# EAGLE library part MAX1693/4 (library m-pad)
Maxim's MAX1693/(MAX1693H)/MAX1694 USB Current-Limited Switches with Fault Blanking Description: The MAX1693/(MAX1693H)/MAX1694 are current-limited, 60mOm switches with built-in fault blanking. Their accurate preset current limit of 0.7A to 1.0A makes them ideally suited for USB applications. Their low quiescent supply current (14µA) and shutdown current (1µA) conserve battery power in portable applications. The MAX1693/(MAX1693H)/MAX1694 operate with inputs from 2.7V to 5.5V, making them ideal for both 3V and 5V systems. A fault signal notifies the microprocessor that the internal current limit has been reached. A 10ms fault-blanking feature allows momentary faults (such as those caused when hot-swapping into a capacitive load) to be ignored, thus preventing false alarms to the host system. This fault blanking also prevents a fault signal from being issued when the device is powering up. In the MAX1693/(MAX1693H), an output overcurrent condition causes the switch to current limit at 0.7A to 1.0A and FAULT to go low after the 10ms blanking period. When the overcurrent condition is removed, FAULT returns to its high-impedance state. In the MAX1694, any overcurrent longer than 10ms will latch the switch open and set FAULT low. The latch is cleared by cycling the ON input or by powering up the device again. This feature saves power by preventing the device from thermally cycling on and off in case of a persistent short-circuit condition. The MAX1693/(MAX1693H)/MAX1694 have several safety features to ensure that the USB port is protected. Built-in thermal-overload protection limits power dissipation and junction temperatures. All devices have accurate internal current-limiting circuitry to protect the input supply against overload. They are available in space-saving 10-pin µMAX packages. Features: Accurate Current Limit (0.7A min, 1.0A max) Guaranteed 0.75A Short-Circuit Protection 10ms Internal Fault-Blanking Timeout No Fault Signal During Power-Up Latched FAULT Output Turns Off Power Switch (MAX1694) Thermal Shutdown Protection 2.7V to 5.5V Supply Range 14µA Supply Current Small 10-Pin µMAX Package UL Recognized?#E211935 Applications: USB Ports and Hubs Notebook Computers Portable Equipment Docking Stations Hot Plug-In Power Supplies Battery-Charger Circuits Please send any comments to: messi@users.sourceforge.net
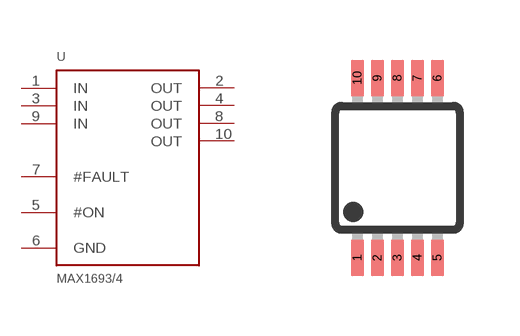
[diagram p82: symbol with the pads of UMAX10; footprint UMAX10]

Designator prefix U

## MAX1693/4  [UMAX10]
1  IN  in
2  OUT  in
3  IN  in
4  OUT  in
5  #ON  in
6  GND  in
7  #FAULT  in
8  OUT  in
9  IN  in
10  OUT  in

## Footprint UMAX10 (pad centres in mm)
micro MAX Package
smd 0.32 x 0.9: 1 -1,-2.25; 2 -0.5,-2.25; 3 0,-2.25; 4 0.5,-2.25; 5 1,-2.25; 6 1,2.25; 7 0.5,2.25; 8 0,2.25; 9 -0.5,2.25; 10 -1,2.25